# EAGLE library part ESP-12 (library ESP8266_modules)
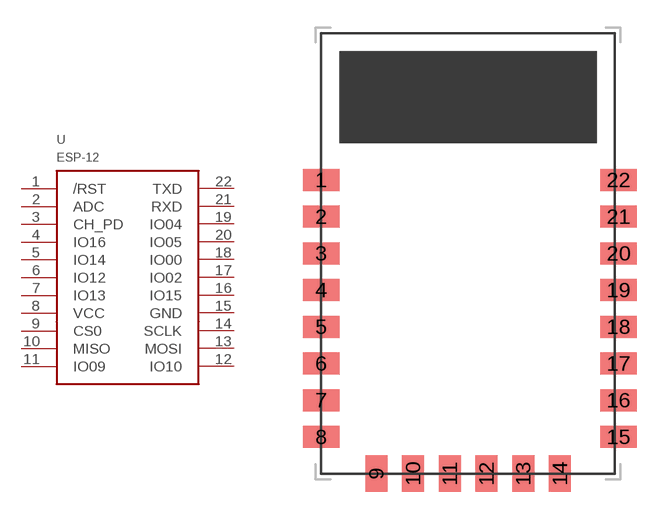
[diagram p1: symbol with the pads of 2MM_2X8_CAST; footprint 2MM_2X8_CAST]

Designator prefix -

## ESP-12  [2MM_2X8_CAST]
1  /RST
2  ADC
3  CH_PD
4  IO16
5  IO14
6  IO12
7  IO13
8  VCC
9  CS0
10  MISO
11  IO09
12  IO10
13  MOSI
14  SCLK
15  GND
16  IO15
17  IO02
18  IO00
19  IO04
20  IO05
21  RXD
22  TXD

## Footprint 2MM_2X8_CAST (pad centres in mm)
smd 2 x 1.2: 1 -8,7; 2 -8,5; 3 -8,3; 4 -8,1; 5 -8,-1; 6 -8,-3; 7 -8,-5; 8 -8,-7; 15 8.2,-7; 16 8.2,-5; 17 8.2,-3; 18 8.2,-1; 19 8.2,1; 20 8.2,3; 21 8.2,5; 22 8.2,7
smd 1.2 x 2: 9 -5,-9; 10 -3,-9; 11 -1,-9; 12 1,-9; 13 3,-9; 14 5,-9